# Altium footprint library SAMTEC SSW-102-03-T-S.PCBLIB: 1 footprints
Each footprint in its own frame and in the unit in brackets; x right, y up, seen from the top. Pads: shape width x height; smd on the part's side, far side on the other; paste and mask are expansions set on the pad; w line width, h text height; cw(c..) or ccw(c..) is an arc to the next point about the centre after c.
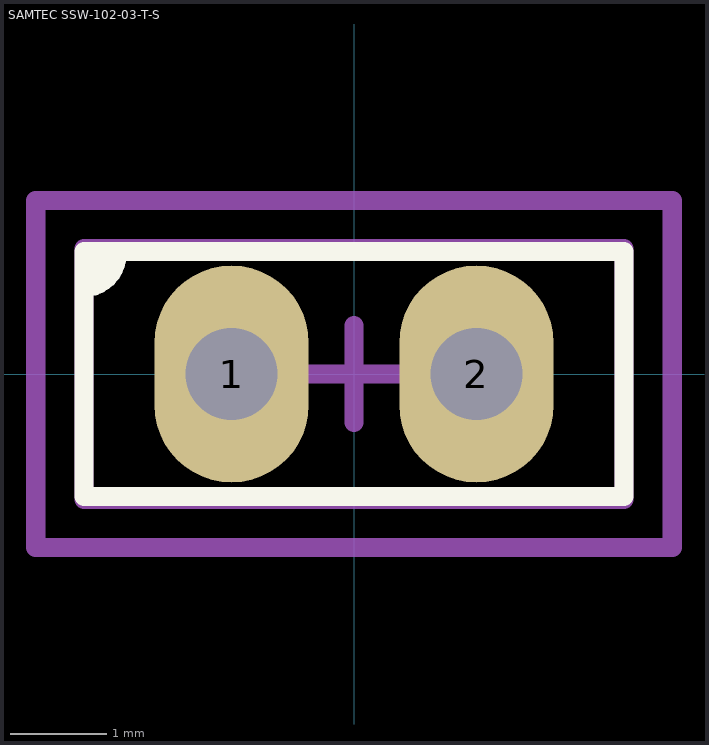
[diagram p0: the footprint, top view; thin cyan lines are the x and y axes]

## SAMTEC SSW-102-03-T-S [mm]
height 8.51
pads (2):
  oval 1.6x2.25 hole 0.95: 1(-1.27,0) 2(1.27,0)
Top Overlay:
  region: -2.8,1.27 -2.46,1.27 -2.46,1.1 -2.66,0.9 -2.8,0.9
  lines w0.2: -2.8,0.9 ccw(c-2.8,1.24) -2.46,1.24 -2.46,1.27 ; -2.8,-1.27 -2.8,1.27 2.8,1.27 2.8,-1.27 -2.8,-1.27
Mechanical 13:
  lines w0.2: -2.8,-1.3 2.8,-1.3 2.8,1.3 -2.8,1.3 -2.8,-1.3
Mechanical 15:
  lines w0.2: -0.5,0 0.5,0 ; 0,-0.5 0,0.5 ; -3.3,-1.8 -3.3,1.8 3.3,1.8 3.3,-1.8 -3.3,-1.8
3D body "Samtec-SSW-102-03-T-S.STEP": height 8.51, standoff -10.01, extent -2.794,-1.206 2.794,1.207